# Altium schematic symbol library 天线控制板 双.SCHLIB: 36 symbols
Pins are listed as number, name and electrical type; pins without a type are passive.

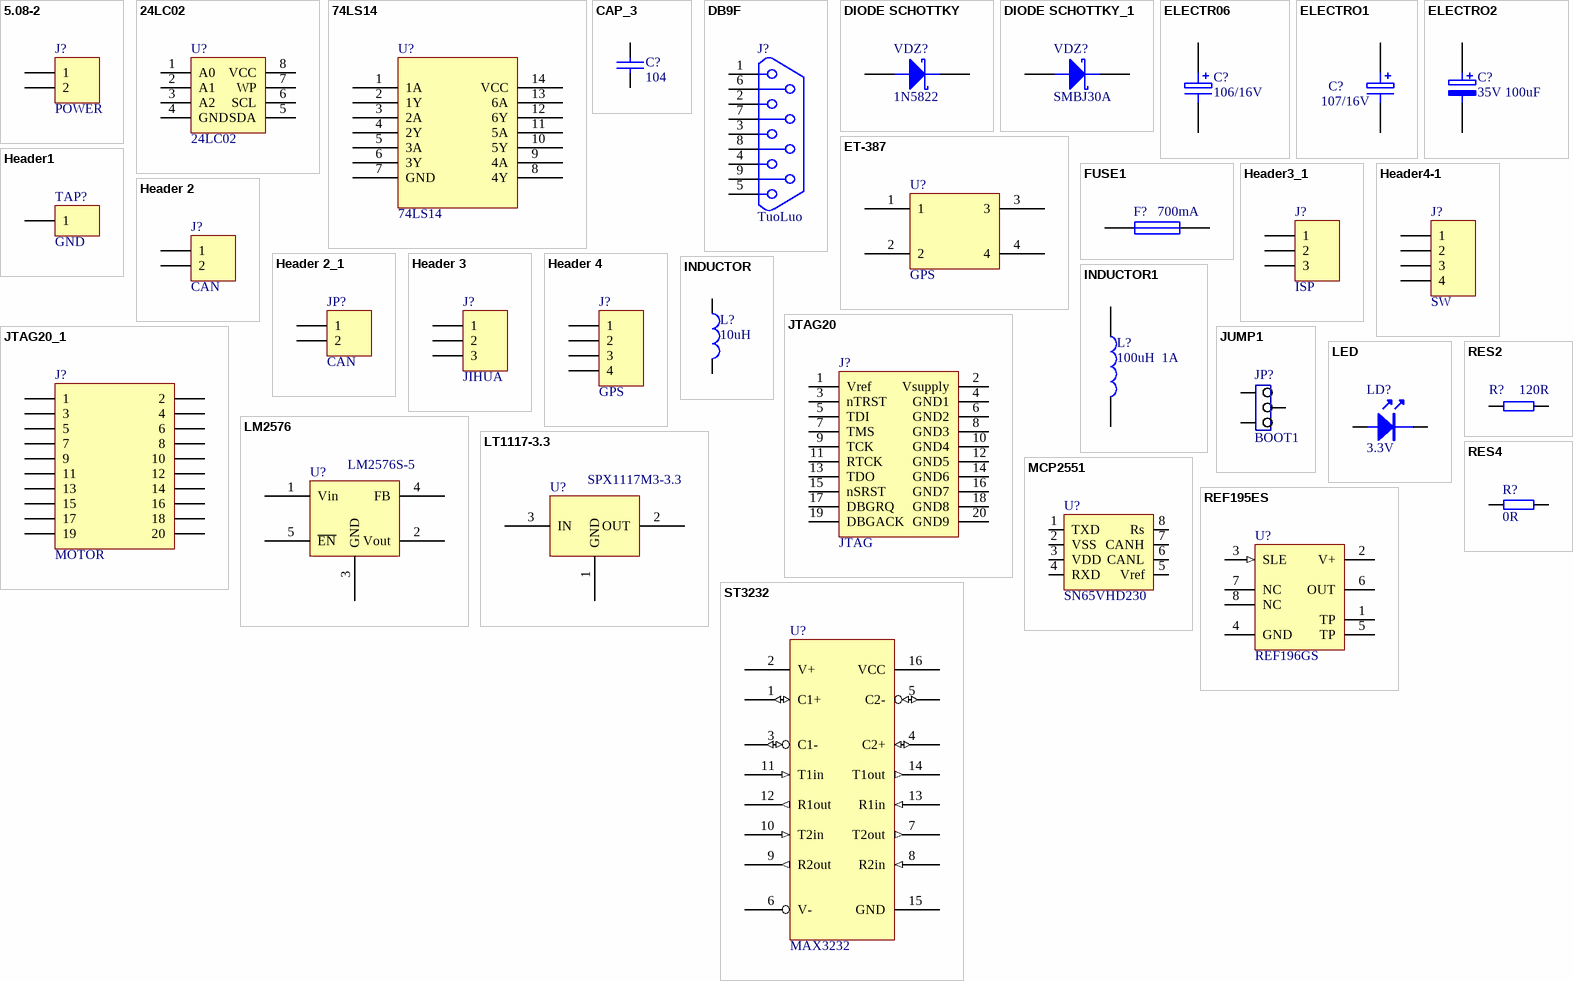
[diagram p0: symbols 5.08-2 to ST3232]

## 5.08-2
designator J?, comment POWER
footprint MKDSN_2RMI
pins: 1, 2

## 24LC02
designator U?
footprint SO-8
pins: 1 A0, 2 A1, 3 A2, 4 GND, 5 SDA, 6 SCL, 7 WP, 8 VCC

## 74LS14
designator U?
footprint SN-SO-14
pins: 1 1A, 2 1Y, 3 2A, 4 2Y, 5 3A, 6 3Y, 7 GND, 8 4Y, 9 4A, 10 5Y, 11 5A, 12 6Y, 13 6A, 14 VCC

## CAP_3
designator C?, comment 104
footprint 0805-C
pins: 1, 2

## DB9F
designator J?, comment TuoLuo
footprint DB9RA/F
pins: 1, 2, 3, 4, 5, 6, 7, 8, 9

## DIODE SCHOTTKY
designator VDZ?, comment 1N5822
Schottky Diode1
footprint IN5819
pins: 1 A, 2 K
2 alternate drawings of the same symbol

## DIODE SCHOTTKY_1
designator VDZ?, comment SMBJ30A
Schottky Diode
footprint SMB
pins: 1 A, 2 K
2 alternate drawings of the same symbol

## ELECTR06
designator C?, comment 106/16V
footprint 3528-CP
pins: 1, 2

## ELECTRO1
designator C?, comment 107/16V
Electrolytic Capacitor
footprint 7343-CP
pins: 1, 2

## ELECTRO2
designator C?, comment 35V 100uF
Electrolytic Capacitor
footprint C8383
pins: 1, 2
2 alternate drawings of the same symbol

## ET-387
designator U?, comment GPS
footprint ET-387
pins: 1, 2, 3, 4

## FUSE1
designator F?, comment 700mA
Fuse
footprint 1812
pins: 1, 2
2 alternate drawings of the same symbol

## Header1
designator TAP?, comment GND
footprint TAP
pins: 1

## Header3_1
designator J?, comment ISP
footprint 2.54-3/ZC
pins: 1, 2, 3

## Header4-1
designator J?, comment SW
footprint 2.54-4/ZC
pins: 1, 2, 3, 4

## Header 2
designator J?, comment CAN
Header2.54-2-Pin; LatestRevisionDate: 17-Jul-2002; LatestRevisionNote: Re-released for DXP Platform.; Publisher: Altium Limited
footprint 2.54-2/1W
pins: 1, 2

## Header 2_1
designator JP?, comment CAN
Header2.54-2-Pin; LatestRevisionDate: 17-Jul-2002; LatestRevisionNote: Re-released for DXP Platform.; Publisher: Altium Limited
footprint SIP2.54-2
pins: 1, 2

## Header 3
designator J?, comment JIHUA
Header, 3-Pin; LatestRevisionDate: 17-Jul-2002; LatestRevisionNote: Re-released for DXP Platform.; Publisher: Altium Limited
footprint 2.54-3/1W
pins: 1, 2, 3

## Header 4
designator J?, comment GPS
Header, 4-Pin; LatestRevisionDate: 17-Jul-2002; LatestRevisionNote: Re-released for DXP Platform.; Publisher: Altium Limited
footprint 2.54-4/1W
pins: 1, 2, 3, 4

## INDUCTOR
designator L?, comment 10uH
footprint 0805-L
pins: 1, 2

## INDUCTOR1
designator L?, comment 100uH  1A
footprint L1010
pins: 1, 2
2 alternate drawings of the same symbol

## JTAG20
designator J?, comment JTAG
footprint JTAG2.54-20
pins: 1 Vref, 2 Vsupply, 3 nTRST, 4 GND1, 5 TDI, 6 GND2, 7 TMS, 8 GND3, 9 TCK, 10 GND4, 11 RTCK, 12 GND5, 13 TDO, 14 GND6, 15 nSRST, 16 GND7, 17 DBGRQ, 18 GND8, 19 DBGACK, 20 GND9

## JTAG20_1
designator J?, comment MOTOR
footprint JTAG2.54-20
pins: 1, 2, 3, 4, 5, 6, 7, 8, 9, 10, 11, 12, 13, 14, 15, 16, 17, 18, 19, 20

## JUMP1
designator JP?, comment BOOT1
footprint SIP2.54-3
pins: 1, 2, 3

## LED
designator LD?, comment 3.3V
footprint LED0805
pins: A 1, K 2

## LM2576
designator U?, comment LM2576S-5
footprint TO-263S
pins: 1 Vin, 2 Vout, 3 GND, 4 FB, 5 ~{EN}
2 alternate drawings of the same symbol

## LT1117-3.3
designator U?, comment SPX1117M3-3.3
footprint SOT223
pins: 1 GND, 2 OUT, 3 IN

## MCP2551
designator U?, comment SN65VHD230
footprint SO-8
pins: 1 TXD, 2 VSS, 3 VDD, 4 RXD, 5 Vref, 6 CANL, 7 CANH, 8 Rs

## REF195ES
designator U?, comment REF196GS
footprint SO-8
pins: 1 TP, 2 V+ (power), 3 SLE (in), 4 GND (power), 5 TP, 6 OUT (power), 7 NC, 8 NC

## RES2
designator R?, comment 120R
footprint 1206-R
pins: 1, 2

## RES4
designator R?, comment 0R
footprint 0805-R
pins: 1, 2

## ST3232
designator U?, comment MAX3232
3.3V/5V Dual RS232 Transceiver w/ Int. Cap.
footprint SO-16-N
pins: 1 C1+ (io), 2 V+, 3 C1- (io), 4 C2+ (io), 5 C2- (io), 6 V-, 7 T2out (out), 8 R2in (in), 9 R2out (out), 10 T2in (in), 11 T1in (in), 12 R1out (out), 13 R1in (in), 14 T1out (out), 15 GND, 16 VCC
2 alternate drawings of the same symbol

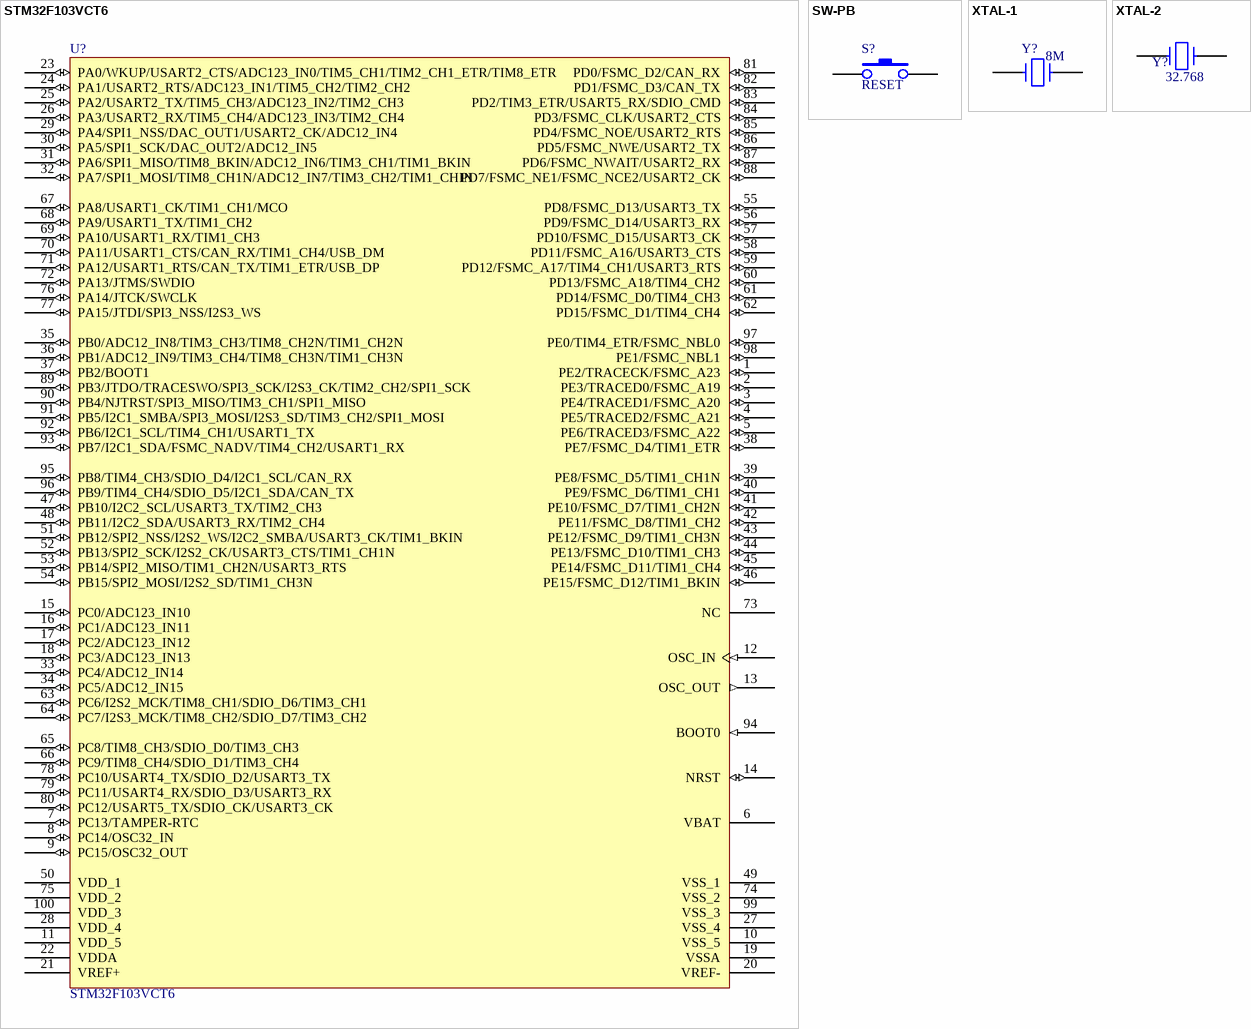
[diagram p1: symbols STM32F103VCT6 to XTAL-2]

## STM32F103VCT6
designator U?
footprint LQFP100_N
pins: 1 PE2/TRACECK/FSMC_A23 (io), 2 PE3/TRACED0/FSMC_A19 (io), 3 PE4/TRACED1/FSMC_A20 (io), 4 PE5/TRACED2/FSMC_A21 (io), 5 PE6/TRACED3/FSMC_A22 (io), 6 VBAT (power), 7 PC13/TAMPER-RTC (io), 8 PC14/OSC32_IN (io), 9 PC15/OSC32_OUT (io), 10 VSS_5 (power), 11 VDD_5 (power), 12 OSC_IN (in), 13 OSC_OUT (out), 14 NRST (io), 15 PC0/ADC123_IN10 (io), 16 PC1/ADC123_IN11 (io), 17 PC2/ADC123_IN12 (io), 18 PC3/ADC123_IN13 (io), 19 VSSA (power), 20 VREF- (power), 21 VREF+ (power), 22 VDDA (power), 23 PA0/WKUP/USART2_CTS/ADC123_IN0/TIM5_CH1/TIM2_CH1_ETR/TIM8_ETR (io), 24 PA1/USART2_RTS/ADC123_IN1/TIM5_CH2/TIM2_CH2 (io), 25 PA2/USART2_TX/TIM5_CH3/ADC123_IN2/TIM2_CH3 (io), 26 PA3/USART2_RX/TIM5_CH4/ADC123_IN3/TIM2_CH4 (io), 27 VSS_4 (power), 28 VDD_4 (power), 29 PA4/SPI1_NSS/DAC_OUT1/USART2_CK/ADC12_IN4 (io), 30 PA5/SPI1_SCK/DAC_OUT2/ADC12_IN5 (io), 31 PA6/SPI1_MISO/TIM8_BKIN/ADC12_IN6/TIM3_CH1/TIM1_BKIN (io), 32 PA7/SPI1_MOSI/TIM8_CH1N/ADC12_IN7/TIM3_CH2/TIM1_CHIN (io), 33 PC4/ADC12_IN14 (io), 34 PC5/ADC12_IN15 (io), 35 PB0/ADC12_IN8/TIM3_CH3/TIM8_CH2N/TIM1_CH2N (io), 36 PB1/ADC12_IN9/TIM3_CH4/TIM8_CH3N/TIM1_CH3N (io), 37 PB2/BOOT1 (io), 38 PE7/FSMC_D4/TIM1_ETR (io), 39 PE8/FSMC_D5/TIM1_CH1N (io), 40 PE9/FSMC_D6/TIM1_CH1 (io), 41 PE10/FSMC_D7/TIM1_CH2N (io), 42 PE11/FSMC_D8/TIM1_CH2 (io), 43 PE12/FSMC_D9/TIM1_CH3N (io), 44 PE13/FSMC_D10/TIM1_CH3 (io), 45 PE14/FSMC_D11/TIM1_CH4 (io), 46 PE15/FSMC_D12/TIM1_BKIN (io), 47 PB10/I2C2_SCL/USART3_TX/TIM2_CH3 (io), 48 PB11/I2C2_SDA/USART3_RX/TIM2_CH4 (io), 49 VSS_1 (power), 50 VDD_1 (power), 51 PB12/SPI2_NSS/I2S2_WS/I2C2_SMBA/USART3_CK/TIM1_BKIN (io), 52 PB13/SPI2_SCK/I2S2_CK/USART3_CTS/TIM1_CH1N (io), 53 PB14/SPI2_MISO/TIM1_CH2N/USART3_RTS (io), 54 PB15/SPI2_MOSI/I2S2_SD/TIM1_CH3N (io), 55 PD8/FSMC_D13/USART3_TX (io), 56 PD9/FSMC_D14/USART3_RX (io), 57 PD10/FSMC_D15/USART3_CK (io), 58 PD11/FSMC_A16/USART3_CTS (io), 59 PD12/FSMC_A17/TIM4_CH1/USART3_RTS (io), 60 PD13/FSMC_A18/TIM4_CH2 (io), 61 PD14/FSMC_D0/TIM4_CH3 (io), 62 PD15/FSMC_D1/TIM4_CH4 (io), 63 PC6/I2S2_MCK/TIM8_CH1/SDIO_D6/TIM3_CH1 (io), 64 PC7/I2S3_MCK/TIM8_CH2/SDIO_D7/TIM3_CH2 (io), 65 PC8/TIM8_CH3/SDIO_D0/TIM3_CH3 (io), 66 PC9/TIM8_CH4/SDIO_D1/TIM3_CH4 (io), 67 PA8/USART1_CK/TIM1_CH1/MCO (io), 68 PA9/USART1_TX/TIM1_CH2 (io), 69 PA10/USART1_RX/TIM1_CH3 (io), 70 PA11/USART1_CTS/CAN_RX/TIM1_CH4/USB_DM (io), 71 PA12/USART1_RTS/CAN_TX/TIM1_ETR/USB_DP (io), 72 PA13/JTMS/SWDIO (io), 73 NC, 74 VSS_2 (power), 75 VDD_2 (power), 76 PA14/JTCK/SWCLK (io), 77 PA15/JTDI/SPI3_NSS/I2S3_WS (io), 78 PC10/USART4_TX/SDIO_D2/USART3_TX (io), 79 PC11/USART4_RX/SDIO_D3/USART3_RX (io), 80 PC12/USART5_TX/SDIO_CK/USART3_CK (io), 81 PD0/FSMC_D2/CAN_RX (io), 82 PD1/FSMC_D3/CAN_TX (io), 83 PD2/TIM3_ETR/USART5_RX/SDIO_CMD (io), 84 PD3/FSMC_CLK/USART2_CTS (io), 85 PD4/FSMC_NOE/USART2_RTS (io), 86 PD5/FSMC_NWE/USART2_TX (io), 87 PD6/FSMC_NWAIT/USART2_RX (io), 88 PD7/FSMC_NE1/FSMC_NCE2/USART2_CK (io), 89 PB3/JTDO/TRACESWO/SPI3_SCK/I2S3_CK/TIM2_CH2/SPI1_SCK (io), 90 PB4/NJTRST/SPI3_MISO/TIM3_CH1/SPI1_MISO (io), 91 PB5/I2C1_SMBA/SPI3_MOSI/I2S3_SD/TIM3_CH2/SPI1_MOSI (io), 92 PB6/I2C1_SCL/TIM4_CH1/USART1_TX (io), 93 PB7/I2C1_SDA/FSMC_NADV/TIM4_CH2/USART1_RX (io), 94 BOOT0 (in), 95 PB8/TIM4_CH3/SDIO_D4/I2C1_SCL/CAN_RX (io), 96 PB9/TIM4_CH4/SDIO_D5/I2C1_SDA/CAN_TX (io), 97 PE0/TIM4_ETR/FSMC_NBL0 (io), 98 PE1/FSMC_NBL1 (io), 99 VSS_3 (power), 100 VDD_3 (power)

## SW-PB
designator S?, comment RESET
footprint SW-6-6
pins: 1, 2

## XTAL-1
designator Y?, comment 8M
footprint XTAL1
pins: 1, 2

## XTAL-2
designator Y?, comment 32.768
footprint XTAL2
pins: 1, 2